# Altium footprint library QFN40.PcbLib: 1 footprints
Each footprint in its own frame and in the unit in brackets; x right, y up, seen from the top. Pads: shape width x height; smd on the part's side, far side on the other; paste and mask are expansions set on the pad; w line width, h text height; cw(c..) or ccw(c..) is an arc to the next point about the centre after c.
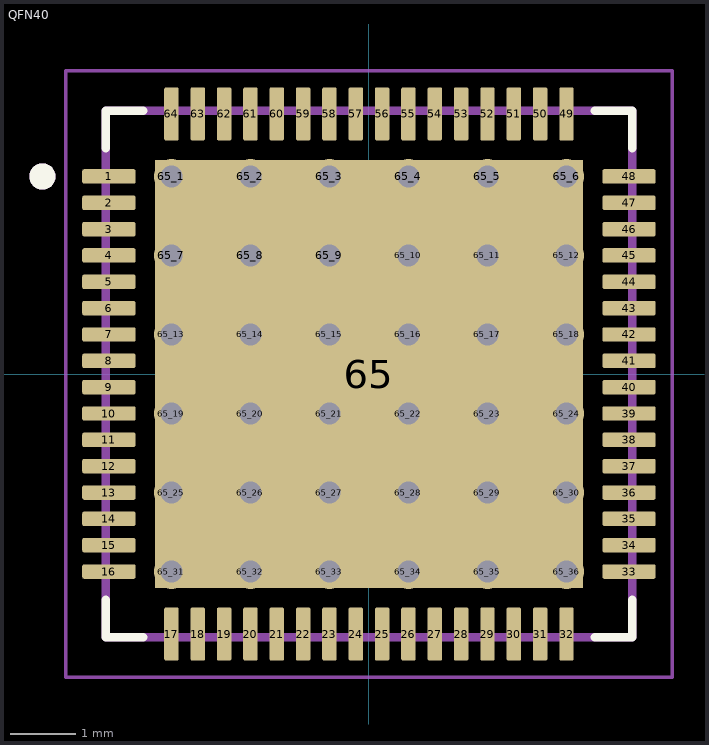
[diagram p0: the footprint, top view; thin cyan lines are the x and y axes]

## QFN40 [mm]
height 0.9
pads (101):
  rrect25% 0.81x0.22 smd: 1(-3.95,3) 2(-3.95,2.6) 3(-3.95,2.2) 4(-3.95,1.8) 5(-3.95,1.4) 6(-3.95,1) 7(-3.95,0.6) 8(-3.95,0.2) 9(-3.95,-0.2) 10(-3.95,-0.6) 11(-3.95,-1) 12(-3.95,-1.4) 13(-3.95,-1.8) 14(-3.95,-2.2) 15(-3.95,-2.6) 16(-3.95,-3) 33(3.95,-3) 34(3.95,-2.6) 35(3.95,-2.2) 36(3.95,-1.8) 37(3.95,-1.4) 38(3.95,-1) 39(3.95,-0.6) 40(3.95,-0.2) 41(3.95,0.2) 42(3.95,0.6) 43(3.95,1) 44(3.95,1.4) 45(3.95,1.8) 46(3.95,2.2) 47(3.95,2.6) 48(3.95,3)
  rrect25% 0.22x0.81 smd: 17(-3,-3.95) 18(-2.6,-3.95) 19(-2.2,-3.95) 20(-1.8,-3.95) 21(-1.4,-3.95) 22(-1,-3.95) 23(-0.6,-3.95) 24(-0.2,-3.95) 25(0.2,-3.95) 26(0.6,-3.95) 27(1,-3.95) 28(1.4,-3.95) 29(1.8,-3.95) 30(2.2,-3.95) 31(2.6,-3.95) 32(3,-3.95) 49(3,3.95) 50(2.6,3.95) 51(2.2,3.95) 52(1.8,3.95) 53(1.4,3.95) 54(1,3.95) 55(0.6,3.95) 56(0.2,3.95) 57(-0.2,3.95) 58(-0.6,3.95) 59(-1,3.95) 60(-1.4,3.95) 61(-1.8,3.95) 62(-2.2,3.95) 63(-2.6,3.95) 64(-3,3.95)
  rect 6.5x6.5 smd paste-2.565: 65(0,0)
  round 0.53 hole 0.33: 65_1(-3,3) 65_2(-1.8,3) 65_3(-0.6,3) 65_4(0.6,3) 65_5(1.8,3) 65_6(3,3) 65_7(-3,1.8) 65_8(-1.8,1.8) 65_9(-0.6,1.8) 65_10(0.6,1.8) 65_11(1.8,1.8) 65_12(3,1.8) 65_13(-3,0.6) 65_14(-1.8,0.6) 65_15(-0.6,0.6) 65_16(0.6,0.6) 65_17(1.8,0.6) 65_18(3,0.6) 65_19(-3,-0.6) 65_20(-1.8,-0.6) 65_21(-0.6,-0.6) 65_22(0.6,-0.6) 65_23(1.8,-0.6) 65_24(3,-0.6) 65_25(-3,-1.8) 65_26(-1.8,-1.8) 65_27(-0.6,-1.8) 65_28(0.6,-1.8) 65_29(1.8,-1.8) 65_30(3,-1.8) 65_31(-3,-3) 65_32(-1.8,-3) 65_33(-0.6,-3) 65_34(0.6,-3) 65_35(1.8,-3) 65_36(3,-3)
Top Overlay:
  circle w0.2: c-4.96,3 r0.1
  lines w0.127: -4,-3.43 -4,-4 -3.43,-4 ; -4,3.43 -4,4 -3.43,4 ; 3.43,-4 4,-4 4,-3.43 ; 3.43,4 4,4 4,3.43
Top Paste:
  region: 0.685,1.485 -0.685,1.485 -0.685,2.855 0.685,2.855
  region: -1.485,1.485 -2.855,1.485 -2.855,2.855 -1.485,2.855
  region: -1.485,-0.685 -2.855,-0.685 -2.855,0.685 -1.485,0.685
  region: -1.485,-2.855 -2.855,-2.855 -2.855,-1.485 -1.485,-1.485
  region: 0.685,-2.855 -0.685,-2.855 -0.685,-1.485 0.685,-1.485
  region: 2.855,-2.855 1.485,-2.855 1.485,-1.485 2.855,-1.485
  region: 2.855,-0.685 1.485,-0.685 1.485,0.685 2.855,0.685
  region: 2.855,1.485 1.485,1.485 1.485,2.855 2.855,2.855
Assembly Top:
  circle w0.2: c-4.96,3 r0.1
  lines w0.127: -4,-4 4,-4 4,4 -4,4 -4,-4
Courtyard Top:
  lines w0.05: -4.605,-4.605 4.605,-4.605 4.605,4.605 -4.605,4.605 -4.605,-4.605
3D body "step_temp.STEP": height 0.9, standoff 0, extent -4,-4 4,4